# Altium schematic symbol library AD7490BRUZ.Schlib: 1 symbol
Pins are listed as number, name and electrical type; pins without a type are passive.

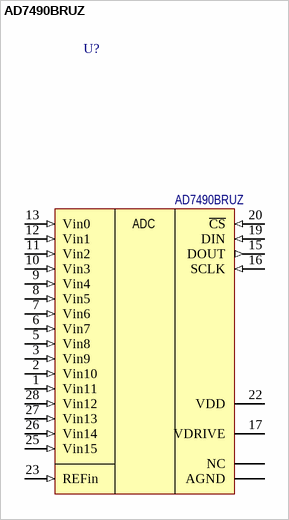
[diagram p0: symbol AD7490BRUZ]

## AD7490BRUZ
designator U?
16-Channel, 1 MSPS, 12-Bit ADC; Потребление, Вт: 0,012; Назначение: 16-Channel, 1 MSPS, 12-Bit ADC; ComponentLink1Description: DataSheet; ComponentLink1URL: https://www.analog.com/media/en/technical-documentation/data-sheets/AD7490.pdf; Наименование: AD7490BRUZ
footprint TSOP-28N (TSOP, 28-Leads, Body 9,70x4,40mm, Pitch 0,65mm, IPC Medium Density)
pins: 1 Vin11 (in), 2 Vin10 (in), 3 Vin9 (in), 4, 18 NC (oc), 5 Vin8 (in), 6 Vin7 (in), 7 Vin6 (in), 8 Vin5 (in), 9 Vin4 (in), 10 Vin3 (in), 11 Vin2 (in), 12 Vin1 (in), 13 Vin0 (in), 14, 21, 24 AGND (oc), 15 DOUT (out), 16 SCLK (in), 17 VDRIVE (oc), 19 DIN (in), 20 ~{CS} (in), 22 VDD (oc), 23 REFin (in), 25 Vin15 (in), 26 Vin14 (in), 27 Vin13 (in), 28 Vin12 (in)
text: ADC